# Altium footprint library blecontrollerPCB1_master.PcbLib: 180 footprints (part 5 of 12)
Each footprint in its own frame and in the unit in brackets; x right, y up, seen from the top. Pads: shape width x height; smd on the part's side, far side on the other; paste and mask are expansions set on the pad; w line width, h text height; cw(c..) or ccw(c..) is an arc to the next point about the centre after c.
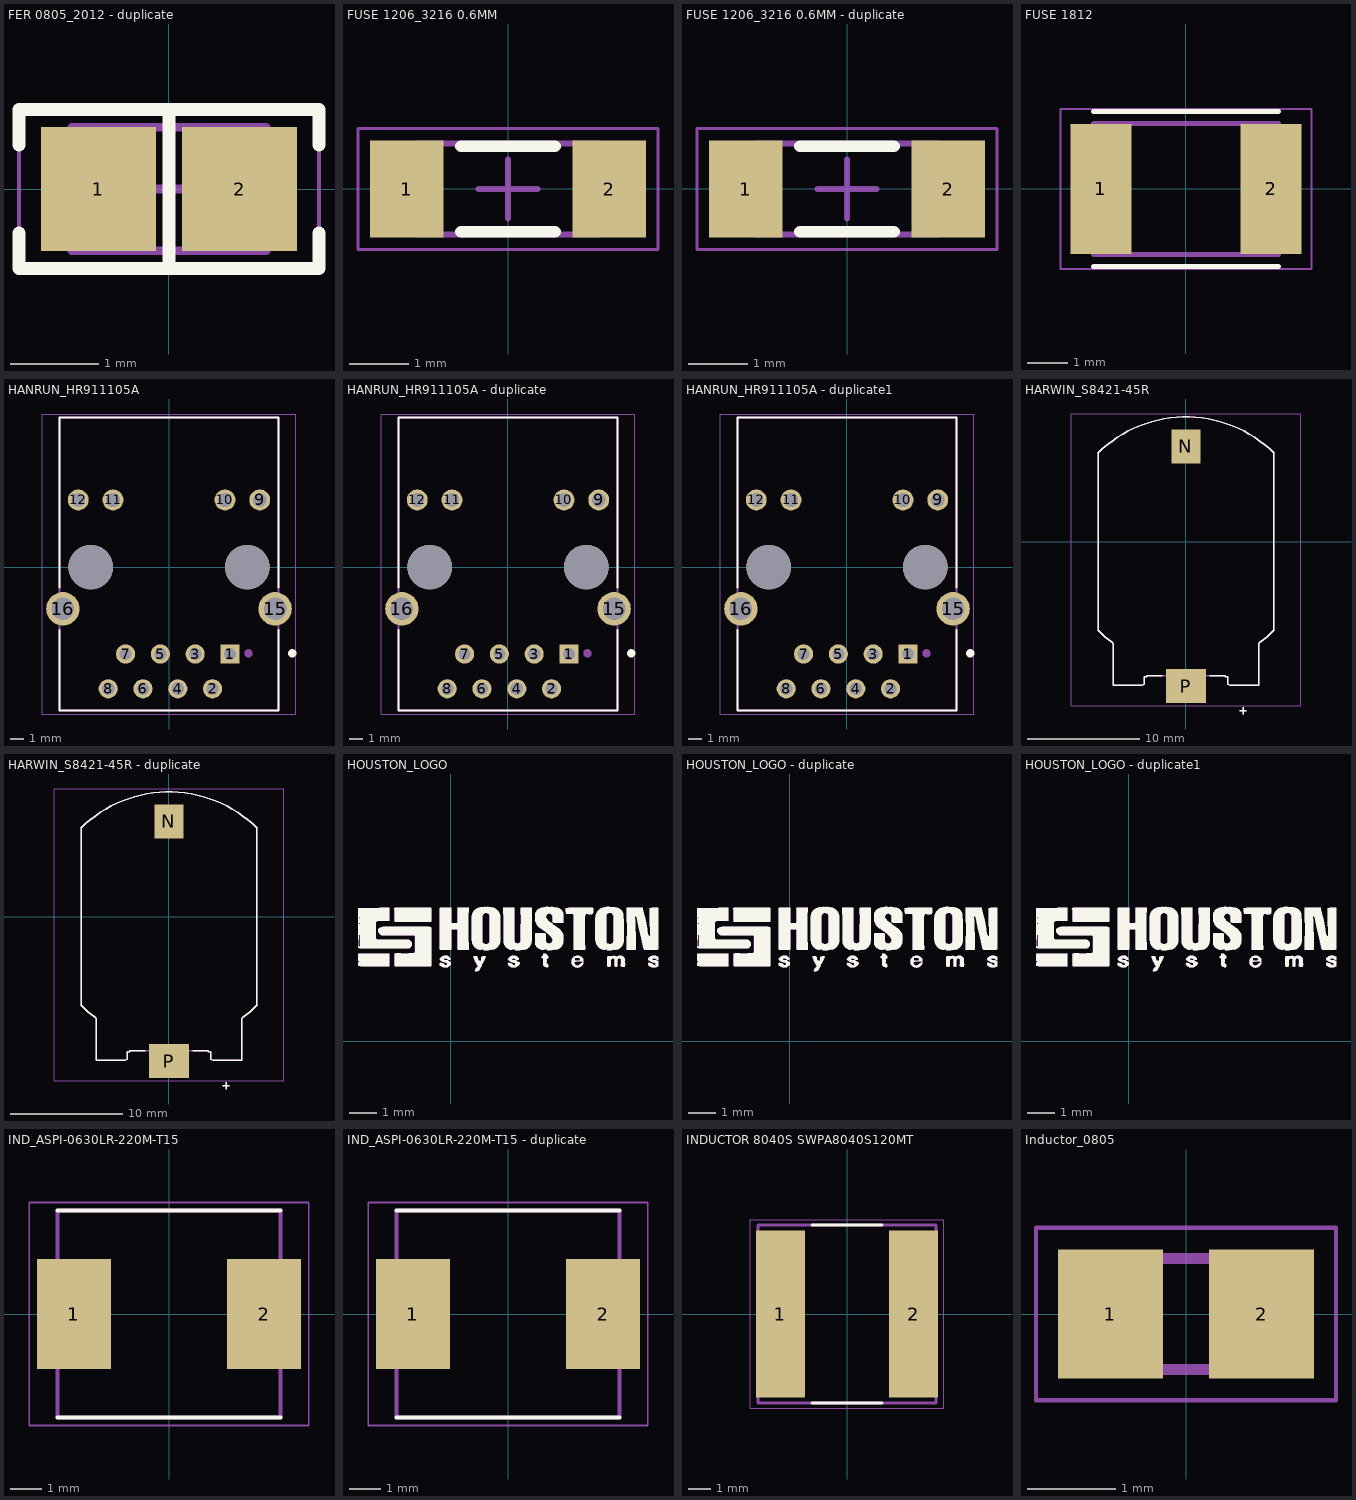
[diagram p4: the footprints below, top view; thin cyan lines are the x and y axes]

## FER 0805_2012 - duplicate [mm]
pads (2):
  rect 1.3x1.4 smd: 1(-0.8,0) 2(0.8,0)
Top Overlay:
  lines w0.15: -1.7,-0.5 -1.7,-0.9 1.7,-0.9 1.7,-0.5 ; -1.7,0.5 -1.7,0.9 1.7,0.9 1.7,0.5 ; 0,-0.9 0,0.9
Mechanical 13:
  lines w0.1: -1.1,-0.7 -1.1,0.7 1.1,0.7 1.1,-0.7 -1.1,-0.7
Mechanical 15:
  lines w0.05: -1.7,-0.95 -1.7,0.95 1.7,0.95 1.7,-0.95 -1.7,-0.95
  lines w0.1: -0.5,0 0.5,0 ; 0,-0.5 0,0.5
3D body "FER 0805.STEP": height 1.26, standoff -0.02, extent -1,-0.637 1,0.637

## FUSE 1206_3216 0.6MM [mm]
pads (2):
  rect 1.25x1.65 smd: 1(-1.725,0) 2(1.725,0)
Top Overlay:
  lines w0.2: -0.8,-0.725 0.8,-0.725 ; -0.8,0.725 0.8,0.725
Mechanical 13:
  lines w0.1: -1.55,-0.775 -1.55,0.775 1.55,0.775 1.55,-0.775 -1.55,-0.775
Mechanical 15:
  lines w0.05: -2.55,-1.025 -2.55,1.025 2.55,1.025 2.55,-1.025 -2.55,-1.025
  lines w0.1: -0.5,0 0.5,0 ; 0,-0.5 0,0.5
3D body "FUSE 1206_3216 0.6MM.step": height 0.76, standoff 0, extent -1.55,-0.775 1.55,0.775

## FUSE 1206_3216 0.6MM - duplicate [mm]
pads (2):
  rect 1.25x1.65 smd: 1(-1.725,0) 2(1.725,0)
Top Overlay:
  lines w0.2: -0.8,-0.725 0.8,-0.725 ; -0.8,0.725 0.8,0.725
Mechanical 13:
  lines w0.1: -1.55,-0.775 -1.55,0.775 1.55,0.775 1.55,-0.775 -1.55,-0.775
Mechanical 15:
  lines w0.05: -2.55,-1.025 -2.55,1.025 2.55,1.025 2.55,-1.025 -2.55,-1.025
  lines w0.1: -0.5,0 0.5,0 ; 0,-0.5 0,0.5
3D body "FUSE 1206_3216 0.6MM.step": height 0.76, standoff 0, extent -1.55,-0.775 1.55,0.775

## FUSE 1812 [mm] "Polymeric PTC Resettable Fuse 60V 100 mA Ih Surface Mount 1812 (4532 Metric), Concave, MF-MSMF010-2"
pads (2):
  rect 1.5x3.2 smd: 1(-2.1,0) 2(2.1,0)
Top Overlay:
  lines w0.127: -2.275,-1.913 2.275,-1.913 ; -2.275,1.913 2.275,1.913
Mechanical 13:
  lines w0.127: -2.275,-1.62 2.275,-1.62 2.275,1.62 -2.275,1.62 -2.275,-1.62
Mechanical 15:
  lines w0.05: -3.1,-1.977 -3.1,1.977 3.1,1.977 3.1,-1.977 -3.1,-1.977
3D body "step_temp.STEP": height 0.85, standoff 0, extent -2.275,-1.62 2.275,1.62

## HANRUN_HR911105A [mm]
pads (16):
  rect 1.398x1.398 / inner round 1.398 / far side rect 1.398x1.398 hole 0.89: 1(4.45,-6.35)
  round 1.398 hole 0.89: 2(3.18,-8.89) 3(1.91,-6.35) 4(0.64,-8.89) 5(-0.63,-6.35) 6(-1.9,-8.89) 7(-3.17,-6.35) 8(-4.44,-8.89)
  round 1.53 hole 1.02: 9(6.625,4.9) 10(4.085,4.9) 11(-4.085,4.9) 12(-6.625,4.9)
  round 2.445 hole 1.63: 15(7.745,-3.05) 16(-7.745,-3.05)
  round 3.25 hole 3.25 unplated: ""(-5.715,0) ""(5.715,0)
Top Overlay:
  circle w0.3: c9,-6.3 r0.15
  lines w0.127: -8,-4.6 -8,-10.48 8,-10.48 8,-4.6 ; -8,-1.5 -8,10.92 8,10.92 8,-1.5
Mechanical 13:
  circle w0.3: c5.8,-6.3 r0.15
  lines w0.127: -8,-10.48 8,-10.48 8,10.92 -8,10.92 -8,-10.48
Mechanical 15:
  lines w0.05: -9.25,-10.73 9.25,-10.73 9.25,11.17 -9.25,11.17 -9.25,-10.73
3D body "step_temp.STEP": height 13.5, standoff -3.05, extent -8.025,-10.403 8.015,10.897

## HANRUN_HR911105A - duplicate [mm]
pads (16):
  rect 1.398x1.398 / inner round 1.398 / far side rect 1.398x1.398 hole 0.89: 1(4.45,-6.35)
  round 1.398 hole 0.89: 2(3.18,-8.89) 3(1.91,-6.35) 4(0.64,-8.89) 5(-0.63,-6.35) 6(-1.9,-8.89) 7(-3.17,-6.35) 8(-4.44,-8.89)
  round 1.53 hole 1.02: 9(6.625,4.9) 10(4.085,4.9) 11(-4.085,4.9) 12(-6.625,4.9)
  round 2.445 hole 1.63: 15(7.745,-3.05) 16(-7.745,-3.05)
  round 3.25 hole 3.25 unplated: ""(-5.715,0) ""(5.715,0)
Top Overlay:
  circle w0.3: c9,-6.3 r0.15
  lines w0.127: -8,-4.6 -8,-10.48 8,-10.48 8,-4.6 ; -8,-1.5 -8,10.92 8,10.92 8,-1.5
Mechanical 13:
  circle w0.3: c5.8,-6.3 r0.15
  lines w0.127: -8,-10.48 -8,10.92 8,10.92 8,-10.48 -8,-10.48
Mechanical 15:
  lines w0.05: -9.25,-10.73 -9.25,11.17 9.25,11.17 9.25,-10.73 -9.25,-10.73
3D body "step_temp.STEP": height 13.5, standoff -3.05, extent -8.025,-10.403 8.015,10.897

## HANRUN_HR911105A - duplicate1 [mm]
pads (16):
  rect 1.398x1.398 / inner round 1.398 / far side rect 1.398x1.398 hole 0.89: 1(4.45,-6.35)
  round 1.398 hole 0.89: 2(3.18,-8.89) 3(1.91,-6.35) 4(0.64,-8.89) 5(-0.63,-6.35) 6(-1.9,-8.89) 7(-3.17,-6.35) 8(-4.44,-8.89)
  round 1.53 hole 1.02: 9(6.625,4.9) 10(4.085,4.9) 11(-4.085,4.9) 12(-6.625,4.9)
  round 2.445 hole 1.63: 15(7.745,-3.05) 16(-7.745,-3.05)
  round 3.25 hole 3.25 unplated: ""(-5.715,0) ""(5.715,0)
Top Overlay:
  circle w0.3: c9,-6.3 r0.15
  lines w0.127: -8,-4.6 -8,-10.48 8,-10.48 8,-4.6 ; -8,-1.5 -8,10.92 8,10.92 8,-1.5
Mechanical 13:
  circle w0.3: c5.8,-6.3 r0.15
  lines w0.127: -8,-10.48 -8,10.92 8,10.92 8,-10.48 -8,-10.48
Mechanical 15:
  lines w0.05: -9.25,-10.73 -9.25,11.17 9.25,11.17 9.25,-10.73 -9.25,-10.73
3D body "step_temp.STEP": height 13.5, standoff -3.05, extent -8.025,-10.403 8.015,10.897

## HARWIN_S8421-45R [mm]
pads (2):
  rect 2.6x3 smd: N(0,8.5)
  rect 3.6x3 smd: P(0,-12.9)
Top Overlay:
  lines w0.127: -7.884,-7.884 ccw(c0,0) -6.554,-9.021 ; -7.884,7.884 cw(c0,0) 7.884,7.884 ; -7.85,-7.918 -7.85,7.918 ; -6.5,-9.059 -6.5,-12.85 -3.889,-12.85 -3.75,-12.758 -3.75,-12.12 -3.75,-12.07 -3.5,-12.07 -3.5,-11.97 -2.12,-11.97 ; 2.12,-11.97 3.5,-11.97 3.5,-12.07 3.75,-12.07 3.75,-12.109 3.75,-12.12 3.75,-12.758 3.889,-12.85 6.5,-12.85 6.5,-9.059 ; 4.8,-15.1 5.4,-15.1 ; 5.1,-15.4 5.1,-14.8 ; 6.554,-9.021 ccw(c0,0) 7.884,-7.884 ; 7.85,-7.918 7.85,7.918
Mechanical 13:
  lines w0.127: -7.884,-7.884 ccw(c0,0) -6.554,-9.021 ; -7.884,7.884 cw(c0,0) 7.884,7.884 ; -7.85,-7.918 -7.85,7.918 ; -6.5,-9.059 -6.5,-12.85 -3.889,-12.85 -3.75,-12.758 -3.75,-12.12 -3.75,-12.07 -3.5,-12.07 -3.5,-11.97 3.5,-11.97 3.5,-12.07 3.75,-12.07 3.75,-12.109 3.75,-12.12 3.75,-12.758 3.889,-12.85 6.5,-12.85 6.5,-9.059 ; 4.8,-15.1 5.4,-15.1 ; 5.1,-15.4 5.1,-14.8 ; 6.554,-9.021 ccw(c0,0) 7.884,-7.884 ; 7.85,-7.918 7.85,7.918
Mechanical 15:
  lines w0.05: -10.25,-14.65 -10.25,11.4 10.25,11.4 10.25,-14.65 -10.25,-14.65

## HARWIN_S8421-45R - duplicate [mm]
pads (2):
  rect 2.6x3 smd: N(0,8.5)
  rect 3.6x3 smd: P(0,-12.9)
Top Overlay:
  lines w0.127: -7.884,-7.884 ccw(c0,0) -6.554,-9.021 ; -7.884,7.884 cw(c0,0) 7.884,7.884 ; -7.85,-7.918 -7.85,7.918 ; -6.5,-9.059 -6.5,-12.85 -3.889,-12.85 -3.75,-12.758 -3.75,-12.12 -3.75,-12.07 -3.5,-12.07 -3.5,-11.97 -2.12,-11.97 ; 2.12,-11.97 3.5,-11.97 3.5,-12.07 3.75,-12.07 3.75,-12.109 3.75,-12.12 3.75,-12.758 3.889,-12.85 6.5,-12.85 6.5,-9.059 ; 4.8,-15.1 5.4,-15.1 ; 5.1,-15.4 5.1,-14.8 ; 6.554,-9.021 ccw(c0,0) 7.884,-7.884 ; 7.85,-7.918 7.85,7.918
Mechanical 13:
  lines w0.127: -7.884,-7.884 ccw(c0,0) -6.554,-9.021 ; -7.884,7.884 cw(c0,0) 7.884,7.884 ; -7.85,-7.918 -7.85,7.918 ; -6.5,-9.059 -6.5,-12.85 -3.889,-12.85 -3.75,-12.758 -3.75,-12.12 -3.75,-12.07 -3.5,-12.07 -3.5,-11.97 3.5,-11.97 3.5,-12.07 3.75,-12.07 3.75,-12.109 3.75,-12.12 3.75,-12.758 3.889,-12.85 6.5,-12.85 6.5,-9.059 ; 4.8,-15.1 5.4,-15.1 ; 5.1,-15.4 5.1,-14.8 ; 6.554,-9.021 ccw(c0,0) 7.884,-7.884 ; 7.85,-7.918 7.85,7.918
Mechanical 15:
  lines w0.05: -10.25,-14.65 -10.25,11.4 10.25,11.4 10.25,-14.65 -10.25,-14.65

## HOUSTON_LOGO [mm]
Top Overlay:
  drawing of 26 lines, arcs and shapes, not listed
Mechanical 13:
  drawing of 26 lines, arcs and shapes, not listed

## HOUSTON_LOGO - duplicate [mm]
Top Overlay:
  drawing of 26 lines, arcs and shapes, not listed
Mechanical 13:
  drawing of 26 lines, arcs and shapes, not listed

## HOUSTON_LOGO - duplicate1 [mm]
Top Overlay:
  drawing of 26 lines, arcs and shapes, not listed
Mechanical 13:
  drawing of 26 lines, arcs and shapes, not listed

## IND_ASPI-0630LR-220M-T15 [mm]
pads (2):
  rect 2.35x3.5 smd: 1(-3.025,0) 2(3.025,0)
Top Overlay:
  lines w0.127: -3.55,-3.3 3.55,-3.3 ; -3.55,3.3 3.55,3.3
Mechanical 13:
  lines w0.127: -3.55,-3.3 3.55,-3.3 3.55,3.3 -3.55,3.3 -3.55,-3.3
Mechanical 15:
  lines w0.05: -4.45,-3.55 4.45,-3.55 4.45,3.55 -4.45,3.55 -4.45,-3.55

## IND_ASPI-0630LR-220M-T15 - duplicate [mm]
pads (2):
  rect 2.35x3.5 smd: 1(-3.025,0) 2(3.025,0)
Top Overlay:
  lines w0.127: -3.55,-3.3 3.55,-3.3 ; -3.55,3.3 3.55,3.3
Mechanical 13:
  lines w0.127: -3.55,-3.3 3.55,-3.3 3.55,3.3 -3.55,3.3 -3.55,-3.3
Mechanical 15:
  lines w0.05: -4.45,-3.55 4.45,-3.55 4.45,3.55 -4.45,3.55 -4.45,-3.55

## INDUCTOR 8040S SWPA8040S120MT [mm]
height 4.2
pads (2):
  rect 2.2x7.5 smd: 1(-3,0) 2(3,0)
Top Overlay:
  lines w0.127: -1.58,-4 1.58,-4 ; -1.58,4 1.58,4
Mechanical 13:
  lines w0.127: -4,-4 -4,4 4,4 4,-4 -4,-4
Mechanical 15:
  lines w0.05: -4.35,-4.25 -4.35,4.25 4.35,4.25 4.35,-4.25 -4.35,-4.25
3D body "step_temp.STEP": height 4, standoff 0, extent -4,-4 4,4

## Inductor_0805 [mm] "Inductor_0805 MLZ2012M1R5HT000"
pads (2):
  rect 1.2x1.47 smd: 1(-0.86,0) 2(0.86,0)
Mechanical 13:
  lines w0.127: -1,-0.63 -1,0.63 1,0.63 1,-0.63 -1,-0.63
Mechanical 15:
  lines w0.05: -1.708,-0.983 -1.708,0.983 1.708,0.983 1.708,-0.983 -1.708,-0.983